# EAGLE library part WEMOS (library 1455413453956-wemos)
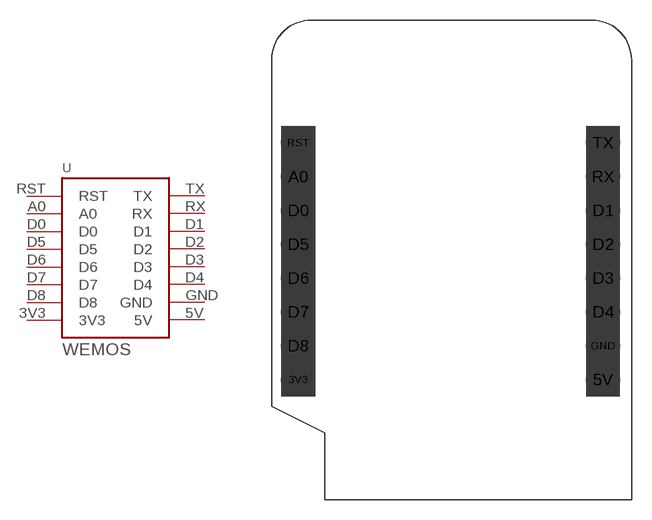
[diagram p0: symbol with the pads of WEMOS; footprint WEMOS]

Designator prefix -

## WEMOS  [WEMOS]
3V3  3V3
5V  5V
A0  A0
D0  D0
D1  D1
D2  D2
D3  D3
D4  D4
D5  D5
D6  D6
D7  D7
D8  D8
GND  GND
RST  RST
RX  RX
TX  TX

## Footprint WEMOS (pad centres in mm)
WEMOS Controller socket
drill 0.8 long: 3V3 0,0; 5V 22.86,0; A0 0,15.24; D0 0,12.7; D1 22.86,12.7; D2 22.86,10.16; D3 22.86,7.62; D4 22.86,5.08; D5 0,10.16; D6 0,7.62; D7 0,5.08; D8 0,2.54; GND 22.86,2.54; RST 0,17.78; RX 22.86,15.24; TX 22.86,17.78